# EAGLE library part CON_PINHD-2X15_TOP (library akita)
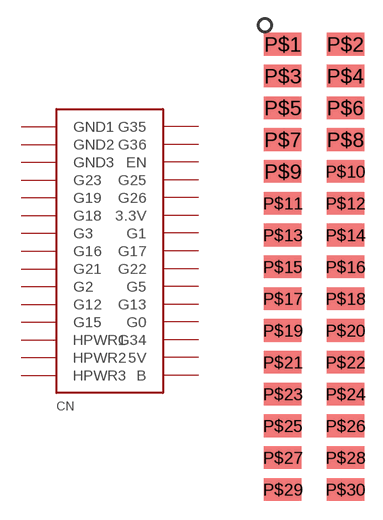
[diagram p0: symbol with the pads of 2X15SMD; footprint 2X15SMD]

Designator prefix CN

## CON_PINHD-2X15_TOP  [2X15SMD]
P$1  GND1
P$2  G35
P$3  GND2
P$4  G36
P$5  GND3
P$6  EN
P$7  G23
P$8  G25
P$9  G19
P$10  G26
P$11  G18
P$12  3.3V
P$13  G3
P$14  G1
P$15  G16
P$16  G17
P$17  G21
P$18  G22
P$19  G2
P$20  G5
P$21  G12
P$22  G13
P$23  G15
P$24  G0
P$25  HPWR1
P$26  G34
P$27  HPWR2
P$28  5V
P$29  HPWR3
P$30  B

## Footprint 2X15SMD (pad centres in mm)
smd 3 x 1.8: P$1 -2.5,17.78; P$2 2.5,17.78; P$3 -2.5,15.24; P$4 2.5,15.24; P$5 -2.5,12.7; P$6 2.5,12.7; P$7 -2.5,10.16; P$8 2.5,10.16; P$9 -2.5,7.62; P$10 2.5,7.62; P$11 -2.5,5.08; P$12 2.5,5.08; P$13 -2.5,2.54; P$14 2.5,2.54; P$15 -2.5,0; P$16 2.5,0; P$17 -2.5,-2.54; P$18 2.5,-2.54; P$19 -2.5,-5.08; P$20 2.5,-5.08; P$21 -2.5,-7.62; P$22 2.5,-7.62; P$23 -2.5,-10.16; P$24 2.5,-10.16; P$25 -2.5,-12.7; P$26 2.5,-12.7; P$27 -2.5,-15.24; P$28 2.5,-15.24; P$29 -2.5,-17.78; P$30 2.5,-17.78